# EAGLE library part 5569-16 (library con-molex-5569)
4.20mm Pitch Mini-Fit Jr.™ 16 pin Source: http://www.molex.com/pdm_docs/sd/039307025_sd.pdf
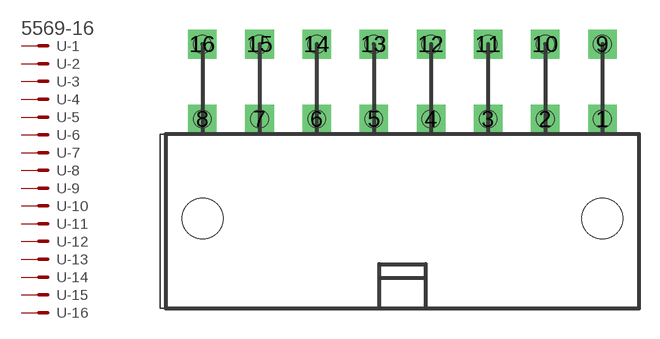
[diagram p6: symbol with the pads of 5569-16; footprint 5569-16]

Designator prefix -; gates -1=MV -2=M -3=M -4=M -5=M -6=M -7=M -8=M -9=M -10=M -11=M -12=M -13=M -14=M -15=M -16=M

## 5569-16  [5569-16]
1  -1:>NAME$
2  -2:>NAME$
3  -3:>NAME$
4  -4:>NAME$
5  -5:>NAME$
6  -6:>NAME$
7  -7:>NAME$
8  -8:>NAME$
9  -9:>NAME$
10  -10:>NAME$
11  -11:>NAME$
12  -12:>NAME$
13  -13:>NAME$
14  -14:>NAME$
15  -15:>NAME$
16  -16:>NAME$

## Footprint 5569-16 (pad centres in mm)
4.20mm Pitch Mini-Fit Jr.™ 16 pin Source: http://www.molex.com/pdm_docs/sd/039307025_sd.pdf
drill 1.4 square: 1 14.7,-2.75; 2 10.5,-2.75; 3 6.3,-2.75; 4 2.1,-2.75; 5 -2.1,-2.75; 6 -6.3,-2.75; 7 -10.5,-2.75; 8 -14.7,-2.75; 9 14.7,2.75; 10 10.5,2.75; 11 6.3,2.75; 12 2.1,2.75; 13 -2.1,2.75; 14 -6.3,2.75; 15 -10.5,2.75; 16 -14.7,2.75
hole 3 at -14.7,-10.05
hole 3 at 14.7,-10.05
hole 1.3 at 14.7,-2.75
hole 1.3 at 14.7,2.75
hole 1.3 at 10.5,-2.75
hole 1.3 at 10.5,2.75
hole 1.3 at 6.3,-2.75
hole 1.3 at 6.3,2.75
hole 1.3 at 2.1,-2.75
hole 1.3 at 2.1,2.75
hole 1.3 at -2.1,-2.75
hole 1.3 at -2.1,2.75
hole 1.3 at -6.3,-2.75
hole 1.3 at -6.3,2.75
hole 1.3 at -10.5,-2.75
hole 1.3 at -10.5,2.75
hole 1.3 at -14.7,-2.75
hole 1.3 at -14.7,2.75